# Altium footprint library ConBoard.PcbLib: 7 footprints
Each footprint in its own frame and in the unit in brackets; x right, y up, seen from the top. Pads: shape width x height; smd on the part's side, far side on the other; paste and mask are expansions set on the pad; w line width, h text height; cw(c..) or ccw(c..) is an arc to the next point about the centre after c.
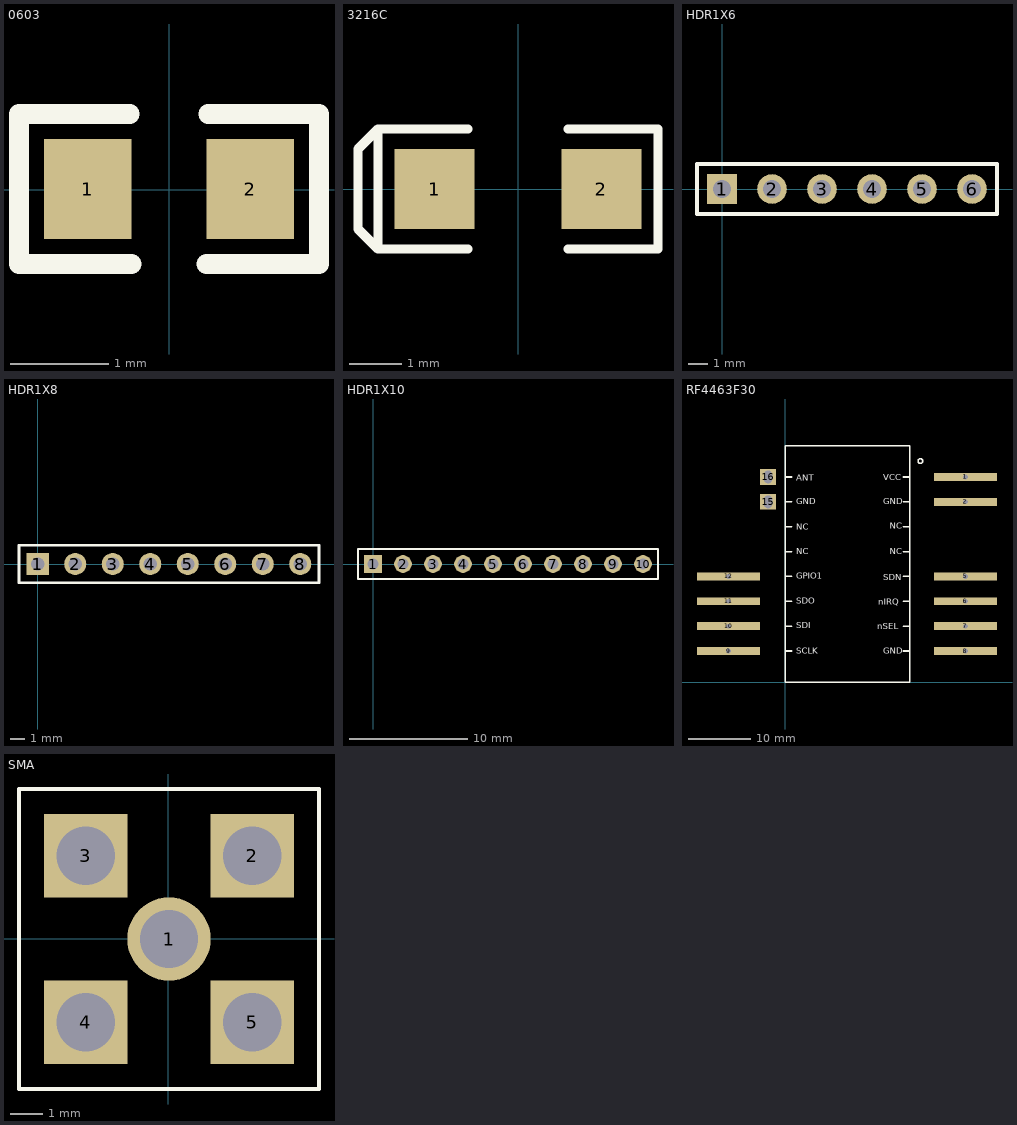
[diagram p0: the footprints below, top view; thin cyan lines are the x and y axes]

## 0603 [mil]
height 39.37
pads (2):
  rect 35x40 smd: 1(-32.66,0.32) 2(32.34,0.32)
Top Overlay:
  lines w7.87: -15.91,30.32 -60.16,30.32 -60.16,-29.68 -15.16,-29.68 ; 14.84,-29.68 59.09,-29.68 ; 15.59,30.32 59.84,30.32 59.84,-29.68

## 3216C [mil]
height 47.24
pads (2):
  rect 60x60 smd: 1(-62.62,0) 2(62.38,0)
Top Overlay:
  lines w7: -37.62,-45 -105.11,-45 ; -37.62,45 -105.11,45 ; 37.38,-45 104.89,-45 104.89,45 37.38,45 ; -105.11,-45 -105.11,45 ; -105.11,-45 -120.11,-30 -120.11,30 -105.11,45

## HDR1X6 [mm] "Connector; Header; 6 Position"
height 1.2
pads (6):
  rect 1.5x1.5 hole 0.9: 1(0,0)
  round 1.5 hole 0.9: 2(2.54,0) 3(5.08,0) 4(7.62,0) 5(10.16,0) 6(12.7,0)
Top Overlay:
  lines w0.2: -1.27,-1.27 13.97,-1.27 13.97,1.27 -1.27,1.27 -1.27,-1.27

## HDR1X8 [mm] "Connector; Header; 8 Position"
height 1.2
pads (8):
  rect 1.5x1.5 hole 0.9: 1(0,0)
  round 1.5 hole 0.9: 2(2.54,0) 3(5.08,0) 4(7.62,0) 5(10.16,0) 6(12.7,0) 7(15.24,0) 8(17.78,0)
Top Overlay:
  lines w0.2: -1.27,-1.27 19.05,-1.27 19.05,1.27 -1.27,1.27 -1.27,-1.27

## HDR1X10 [mm] "Connector; Header; 10 Position"
height 1.2
pads (10):
  rect 1.5x1.5 hole 0.9: 1(0,0)
  round 1.5 hole 0.9: 2(2.54,0) 3(5.08,0) 4(7.62,0) 5(10.16,0) 6(12.7,0) 7(15.24,0) 8(17.78,0) 9(20.32,0) 10(22.86,0)
Top Overlay:
  lines w0.2: -1.27,-1.27 24.13,-1.27 24.13,1.27 0.635,1.27 -1.27,1.27 -1.27,-1.27

## RF4463F30 [mil]
pads (12):
  rect 400x50 hole 30: 1(1140,1299.21) 2(1140,1141.73) 5(1140,669.29) 6(1140,511.81) 7(1140,354.33) 8(1140,196.85) 9(-360,196.85) 10(-360,354.33) 11(-360,511.81) 12(-360,669.29)
  rect 100x100 hole 50 slot 80 at 90 deg: 15(-110,1141.73) 16(-110,1299.21)
Top Overlay:
  circle w10: c855,1400 r15
  lines w10: 0,196.85 39.37,196.85 ; 0,354.33 39.37,354.33 ; 0,511.81 39.37,511.81 ; 0,669.29 39.37,669.29 ; 0,826.77 39.37,826.77 ; 0,984.25 39.37,984.25 ; 0,1141.73 39.37,1141.73 ; 0,1299.21 39.37,1299.21 ; 748.03,196.85 787.4,196.85 ; 748.03,354.33 787.4,354.33 ; 748.03,511.81 787.4,511.81 ; 748.03,669.29 787.4,669.29 ; 748.03,826.77 787.4,826.77 ; 748.03,984.25 787.4,984.25 ; 748.03,1141.73 787.4,1141.73 ; 748.03,1299.21 787.4,1299.21 ; 0,0 787.4,0 787.4,1496.06 0,1496.06 0,0
  text "SCLK" at 70,180 h40
  text "SDI" at 70,340 h40
  text "SDO" at 70,495 h40
  text "GPIO1" at 70,655 h40
  text "ANT" at 70,1275 h40
  text "GND" at 70,1125 h40
  text "GND" at 619.99,180 h40
  text "nSEL" at 580,335 h40
  text "nIRQ" at 586.66,490 h40
  text "SDN" at 619.99,645 h40
  text "NC" at 70,810 h40
  text "NC" at 70,965 h40
  text "NC" at 659.97,810 h40
  text "NC" at 659.97,970 h40
  text "GND" at 619.99,1125 h40
  text "VCC" at 619.99,1280 h40

## SMA [mil]
height 433.07
pads (5):
  round 100 hole 70: 1(0.73,-0.32)
  rect 100x100 hole 70: 2(100.73,99.68) 3(-99.27,99.68) 4(-99.27,-100.32) 5(100.73,-100.32)
Top Overlay:
  lines w5: -179.27,-180.32 -179.27,179.68 180.73,179.68 180.73,-180.32 -179.27,-180.32